# EAGLE library part 10029449-001RLF (library Connectors)
CONN RCPT 1.4 HDMI 19POS SMD R/A Manufacturer's datasheet <https://www.amphenol-icc.com/media/wysiwyg/files/drawing/10029449.pdf>
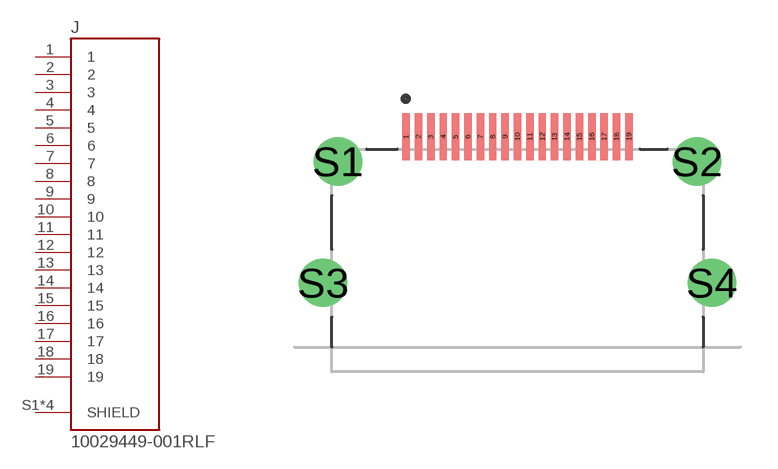
[diagram p13: symbol with the pads of 10029449-001RLF; footprint 10029449-001RLF]

Designator prefix J

## 10029449-001RLF (CREATED_BY: PCBLayout.com; DIGIKEY_PART_NUMER: 609-1010-2-ND; MANUFACTURER: Amphenol ICC (FCI); MPN: 10029449-001RLF)  [10029449-001RLF]
1  1  pas
2  2  pas
3  3  pas
4  4  pas
5  5  pas
6  6  pas
7  7  pas
8  8  pas
9  9  pas
10  10  pas
11  11  pas
12  12  pas
13  13  pas
14  14  pas
15  15  pas
16  16  pas
17  17  pas
18  18  pas
19  19  pas
S1  SHIELD  pas
S2  SHIELD  pas
S3  SHIELD  pas
S4  SHIELD  pas

## Footprint 10029449-001RLF (pad centres in mm)
smd 0.3 x 1.9: 1 -4.5,1; 2 -4,1; 3 -3.5,1; 4 -3,1; 5 -2.5,1; 6 -2,1; 7 -1.5,1; 8 -1,1; 9 -0.5,1; 10 0,1; 11 0.5,1; 12 1,1; 13 1.5,1; 14 2,1; 15 2.5,1; 16 3,1; 17 3.5,1; 18 4,1; 19 4.5,1
drill 1.3: S1 -7.25,0; S2 7.25,0; S3 -7.85,-4.9; S4 7.85,-4.9